# EAGLE library part AD8561 (library opamp_comparator)
AD8561 Ultrafast 7 ns Single Supply Comparator
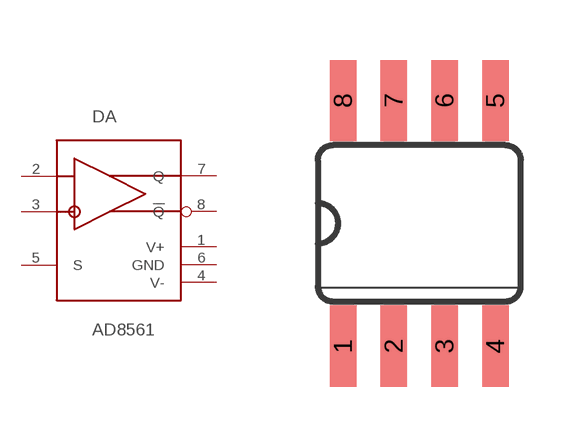
[diagram p5: symbol with the pads of SO08; footprint SO08]

Designator prefix DA

## AD8561  [SO08]
1  V+
2  +
3  -
4  V-
5  S
6  GND
7  Q
8  !Q

## Footprint SO08 (pad centres in mm)
Small Outline package 8 150 mil
smd 0.66 x 2.032: 1 -1.905,-3.073; 2 -0.635,-3.073; 3 0.635,-3.073; 4 1.905,-3.073; 5 1.905,3.073; 6 0.635,3.073; 7 -0.635,3.073; 8 -1.905,3.073